# EAGLE library part MAX4910ETET (library MAX4910ETET)
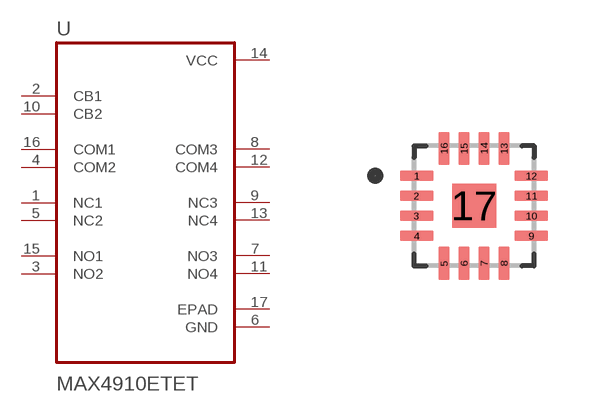
[diagram p0: symbol with the pads of QFN50P300X300X80-17N; footprint QFN50P300X300X80-17N]

Designator prefix U

## MAX4910ETET (Description: Interface IC - analogue switches Maxim Integrated MAX4910ETE+ TQFN 16 EP; Digi-Key_Part_Number: MAX4910ETE+-ND; Digi-Key_Purchase_URL: https://www.digikey.com/product-detail/en/maxim-integrated/MAX4910ETE-/MAX4910ETE--ND/1779955?utm_source=snapeda&utm_medium=aggregator&utm_campaign=symbol; MF: Maxim Integrated; MP: MAX4910ETE+; Package: TQFN-16 Maxim)  [QFN50P300X300X80-17N]
1  NC1
2  CB1  in
3  NO2
4  COM2
5  NC2
6  GND  pwr
7  NO3
8  COM3
9  NC3
10  CB2  in
11  NO4
12  COM4
13  NC4
14  VCC  pwr
15  NO1
16  COM1
17  EPAD  pwr

## Footprint QFN50P300X300X80-17N (pad centres in mm)
smd 0.84 x 0.27: 1 -1.435,0.75; 2 -1.435,0.25; 3 -1.435,-0.25; 4 -1.435,-0.75; 9 1.435,-0.75; 10 1.435,-0.25; 11 1.435,0.25; 12 1.435,0.75
smd 0.27 x 0.84: 5 -0.75,-1.435; 6 -0.25,-1.435; 7 0.25,-1.435; 8 0.75,-1.435; 13 0.75,1.435; 14 0.25,1.435; 15 -0.25,1.435; 16 -0.75,1.435
smd 1.1 x 1.1: 17 0,0